# Altium footprint library INA169QPWRQ1.PcbLib: 3 footprints
Each footprint in its own frame and in the unit in brackets; x right, y up, seen from the top. Pads: shape width x height; smd on the part's side, far side on the other; paste and mask are expansions set on the pad; w line width, h text height; cw(c..) or ccw(c..) is an arc to the next point about the centre after c.
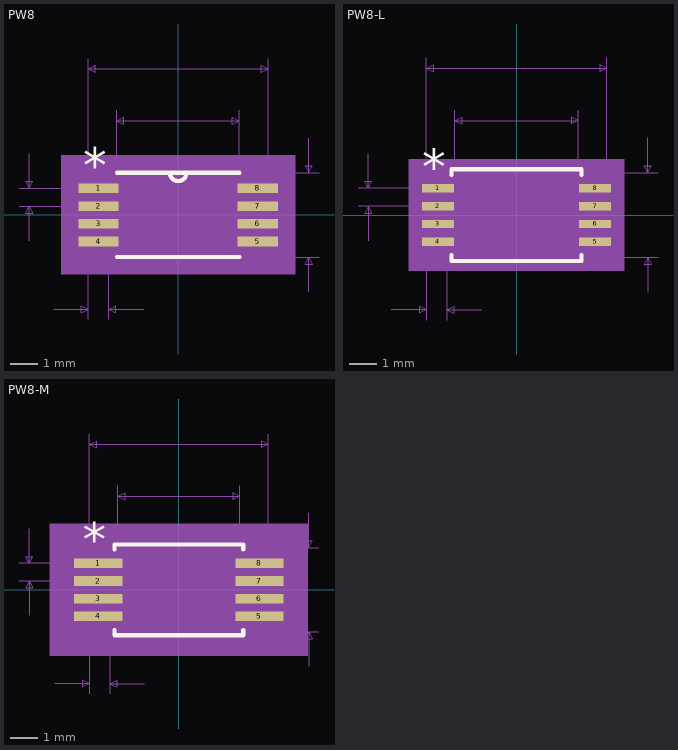
[diagram p0: the footprints below, top view; thin cyan lines are the x and y axes]

## PW8 [mil]
pads (8):
  rect 58x14 smd: 1(-115,38.39) 2(-115,12.8) 3(-115,-12.8) 4(-115,-38.39) 5(115,-38.39) 6(115,-12.8) 7(115,12.8) 8(115,38.39)
Top Overlay:
  lines w6: -88.5,-61 88.5,-61 ; -88.5,61 88.5,61 ; -12,61 ccw(c0,61) 12,61
  text "*" at -137.5,47.39 h50
Mechanical 5:
  region: 169,-86 -169,-86 -169,86 169,86
Mechanical 7:
  lines w1: -230,12.8 -115,12.8 ; -230,38.39 -115,38.39 ; -215,-37.2 -215,12.8 ; -215,88.39 -215,38.39 ; -180,-136 -130,-136 ; -130,-151 -130,0 -130,226 ; -100,-151 -100,0 ; -88.5,0 -88.5,151 ; -50,-136 -100,-136 ; 0,-61 203.5,-61 ; 0,61 203.5,61 ; 88.5,0 88.5,151 ; 130,0 130,226 ; 188.5,-111 188.5,-61 ; 188.5,111 188.5,61 ; -215,12.8 -220,2.8 -210,2.8 -215,12.8 ; -215,38.39 -220,48.39 -210,48.39 -215,38.39 ; -130,-136 -140,-131 -140,-141 -130,-136 ; -130,211 130,211 ; -130,211 -120,216 -120,206 -130,211 ; -100,-136 -90,-131 -90,-141 -100,-136 ; -88.5,136 88.5,136 ; -88.5,136 -78.5,141 -78.5,131 -88.5,136 ; 88.5,136 78.5,141 78.5,131 88.5,136 ; 130,211 120,216 120,206 130,211 ; 188.5,-61 183.5,-71 193.5,-71 188.5,-61 ; 188.5,61 183.5,71 193.5,71 188.5,61
  text "Default Padstyle: RX58Y14D0T" at -350,-261 h50
  text "Pin One Padstyle: RX58Y14D0T" at -350,-336 h50
  text "Alt 1 Padstyle: OX60Y90D30P" at -337.5,-411 h50
  text "Alt 2 Padstyle: OX90Y60D30P" at -337.5,-486 h50
  text ".177in/4.496mm" at -87.5,156 h25
  text ".26in/6.604mm" at -81.25,231 h25
  text ".122in/3.099mm" at 208.5,-12.5 h25
  text "2.559055E-02in/.65mm" at -485,13.09 h25
  text ".03in/.762mm" at -190,-181 h25
Mechanical 13:
  lines w0: -12,61 ccw(c0,61) 12,61
  lines w1: -130,-44.39 -130,-32.39 -88.5,-32.39 -88.5,-44.39 -130,-44.39 ; -130,-18.8 -130,-6.8 -88.5,-6.8 -88.5,-18.8 -130,-18.8 ; -130,6.8 -130,18.8 -88.5,18.8 -88.5,6.8 -130,6.8 ; -130,32.39 -130,44.39 -88.5,44.39 -88.5,32.39 -130,32.39 ; -88.5,-61 88.5,-61 88.5,61 -88.5,61 -88.5,-61 ; 88.5,-44.39 88.5,-32.39 130,-32.39 130,-44.39 88.5,-44.39 ; 88.5,-18.8 88.5,-6.8 130,-6.8 130,-18.8 88.5,-18.8 ; 88.5,6.8 88.5,18.8 130,18.8 130,6.8 88.5,6.8 ; 88.5,32.39 88.5,44.39 130,44.39 130,32.39 88.5,32.39
  text "*" at -137.5,47.39 h50
  text "'.Designator'" at 33.94,98.12 h27.56
Mechanical 15:
  region: 154,-71 -154,-71 -154,71 154,71
  lines w6: -154,-71 -154,71 154,71 154,-71 -154,-71
3D body "PW8.step": height 47.09, standoff 0, extent -130,-60.98 130,60.98

## PW8-L [mil]
pads (8):
  rect 46x12 smd paste+0 mask+0: 1(-113,38.39) 2(-113,12.8) 3(-113,-12.8) 4(-113,-38.39) 5(113,-38.39) 6(113,-12.8) 7(113,12.8) 8(113,38.39)
Top Overlay:
  lines w6: -93.5,-57.49 -93.5,-66 93.5,-66 93.5,-57.49 ; -93.5,57.49 -93.5,66 93.5,66 93.5,57.49
  text "*" at -135.5,45.39 h50
Mechanical 5:
  region: 155,-80 -155,-80 -155,80 155,80
Mechanical 7:
  lines w1: -228,12.8 -113,12.8 ; -228,38.39 -113,38.39 ; -213,-37.2 -213,12.8 ; -213,88.39 -213,38.39 ; -180,-136 -130,-136 ; -130,-151 -130,0 -130,226 ; -100,-151 -100,0 ; -88.5,0 -88.5,151 ; -50,-136 -100,-136 ; 0,-61 203.5,-61 ; 0,61 203.5,61 ; 88.5,0 88.5,151 ; 130,0 130,226 ; 188.5,-111 188.5,-61 ; 188.5,111 188.5,61 ; -213,12.8 -218,2.8 -208,2.8 -213,12.8 ; -213,38.39 -218,48.39 -208,48.39 -213,38.39 ; -130,-136 -140,-131 -140,-141 -130,-136 ; -130,211 130,211 ; -130,211 -120,216 -120,206 -130,211 ; -100,-136 -90,-131 -90,-141 -100,-136 ; -88.5,136 88.5,136 ; -88.5,136 -78.5,141 -78.5,131 -88.5,136 ; 88.5,136 78.5,141 78.5,131 88.5,136 ; 130,211 120,216 120,206 130,211 ; 188.5,-61 183.5,-71 193.5,-71 188.5,-61 ; 188.5,61 183.5,71 193.5,71 188.5,61
  text "Default Padstyle: RX46Y12D0T" at -350,-261 h50
  text "Pin One Padstyle: RX46Y12D0T" at -350,-321 h50
  text "Alt 1 Padstyle: OX60Y90D30P" at -337.5,-501 h50
  text "Alt 2 Padstyle: OX90Y60D30P" at -337.5,-561 h50
  text "0.177in/4.496mm" at -93.75,156 h25
  text "0.26in/6.604mm" at -87.5,231 h25
  text "0.122in/3.099mm" at 208.5,-12.5 h25
  text "0.026in/0.65mm" at -408,13.09 h25
  text "0.03in/0.762mm" at -202.5,-181 h25
Mechanical 13:
  lines w0: -12,61 ccw(c0,61) 12,61
  lines w1: -130,-44.39 -130,-32.39 -88.5,-32.39 -88.5,-44.39 -130,-44.39 ; -130,-18.8 -130,-6.8 -88.5,-6.8 -88.5,-18.8 -130,-18.8 ; -130,6.8 -130,18.8 -88.5,18.8 -88.5,6.8 -130,6.8 ; -130,32.39 -130,44.39 -88.5,44.39 -88.5,32.39 -130,32.39 ; -88.5,-61 88.5,-61 88.5,61 -88.5,61 -88.5,-61 ; 88.5,-44.39 88.5,-32.39 130,-32.39 130,-44.39 88.5,-44.39 ; 88.5,-18.8 88.5,-6.8 130,-6.8 130,-18.8 88.5,-18.8 ; 88.5,6.8 88.5,18.8 130,18.8 130,6.8 88.5,6.8 ; 88.5,32.39 88.5,44.39 130,44.39 130,32.39 88.5,32.39
  text "*" at -86,8 h50
Mechanical 15:
  region: -92.5,-48.39 -140,-48.39 -140,48.39 -92.5,48.39 -92.5,65 92.5,65 92.5,48.39 140,48.39 140,-48.39 92.5,-48.39 92.5,-65 -92.5,-65
  lines w6: -140,-48.39 -140,48.39 -92.5,48.39 -92.5,65 92.5,65 92.5,48.39 140,48.39 140,-48.39 92.5,-48.39 92.5,-65 -92.5,-65 -92.5,-48.39 -140,-48.39
3D body "PW8.step": height 47.09, standoff 0, extent -130,-60.98 130,60.98

## PW8-M [mil]
pads (8):
  rect 70x14 smd paste+0 mask+0: 1(-117,38.39) 2(-117,12.8) 3(-117,-12.8) 4(-117,-38.39) 5(117,-38.39) 6(117,-12.8) 7(117,12.8) 8(117,38.39)
Top Overlay:
  lines w6: -93.5,-58.49 -93.5,-66 93.5,-66 93.5,-58.49 ; -93.5,58.49 -93.5,66 93.5,66 93.5,58.49
  text "*" at -139.5,47.39 h50
Mechanical 5:
  region: 187,-96 -187,-96 -187,96 187,96
Mechanical 7:
  lines w1: -232,12.8 -117,12.8 ; -232,38.39 -117,38.39 ; -217,-37.2 -217,12.8 ; -217,88.39 -217,38.39 ; -180,-136 -130,-136 ; -130,-151 -130,0 -130,226 ; -100,-151 -100,0 ; -88.5,0 -88.5,151 ; -50,-136 -100,-136 ; 0,-61 203.5,-61 ; 0,61 203.5,61 ; 88.5,0 88.5,151 ; 130,0 130,226 ; 188.5,-111 188.5,-61 ; 188.5,111 188.5,61 ; -217,12.8 -222,2.8 -212,2.8 -217,12.8 ; -217,38.39 -222,48.39 -212,48.39 -217,38.39 ; -130,-136 -140,-131 -140,-141 -130,-136 ; -130,211 130,211 ; -130,211 -120,216 -120,206 -130,211 ; -100,-136 -90,-131 -90,-141 -100,-136 ; -88.5,136 88.5,136 ; -88.5,136 -78.5,141 -78.5,131 -88.5,136 ; 88.5,136 78.5,141 78.5,131 88.5,136 ; 130,211 120,216 120,206 130,211 ; 188.5,-61 183.5,-71 193.5,-71 188.5,-61 ; 188.5,61 183.5,71 193.5,71 188.5,61
  text "Default Padstyle: RX70Y14D0T" at -350,-261 h50
  text "Pin One Padstyle: RX70Y14D0T" at -350,-321 h50
  text "Alt 1 Padstyle: OX60Y90D30P" at -337.5,-501 h50
  text "Alt 2 Padstyle: OX90Y60D30P" at -337.5,-561 h50
  text "0.177in/4.496mm" at -93.75,156 h25
  text "0.26in/6.604mm" at -87.5,231 h25
  text "0.122in/3.099mm" at 208.5,-12.5 h25
  text "0.026in/0.65mm" at -412,13.09 h25
  text "0.03in/0.762mm" at -202.5,-181 h25
Mechanical 13:
  lines w0: -12,61 ccw(c0,61) 12,61
  lines w1: -130,-44.39 -130,-32.39 -88.5,-32.39 -88.5,-44.39 -130,-44.39 ; -130,-18.8 -130,-6.8 -88.5,-6.8 -88.5,-18.8 -130,-18.8 ; -130,6.8 -130,18.8 -88.5,18.8 -88.5,6.8 -130,6.8 ; -130,32.39 -130,44.39 -88.5,44.39 -88.5,32.39 -130,32.39 ; -88.5,-61 88.5,-61 88.5,61 -88.5,61 -88.5,-61 ; 88.5,-44.39 88.5,-32.39 130,-32.39 130,-44.39 88.5,-44.39 ; 88.5,-18.8 88.5,-6.8 130,-6.8 130,-18.8 88.5,-18.8 ; 88.5,6.8 88.5,18.8 130,18.8 130,6.8 88.5,6.8 ; 88.5,32.39 88.5,44.39 130,44.39 130,32.39 88.5,32.39
  text "*" at -86,8 h50
Mechanical 15:
  region: -108.5,-65.39 -172,-65.39 -172,65.39 -108.5,65.39 -108.5,81 108.5,81 108.5,65.39 172,65.39 172,-65.39 108.5,-65.39 108.5,-81 -108.5,-81
  lines w6: -172,-65.39 -172,65.39 -108.5,65.39 -108.5,81 108.5,81 108.5,65.39 172,65.39 172,-65.39 108.5,-65.39 108.5,-81 -108.5,-81 -108.5,-65.39 -172,-65.39
3D body "PW8.step": height 47.09, standoff 0, extent -130,-60.98 130,60.98